# Altium footprint library Open-Wearable.PcbLib: 2 footprints
Each footprint in its own frame and in the unit in brackets; x right, y up, seen from the top. Pads: shape width x height; smd on the part's side, far side on the other; paste and mask are expansions set on the pad; w line width, h text height; cw(c..) or ccw(c..) is an arc to the next point about the centre after c.
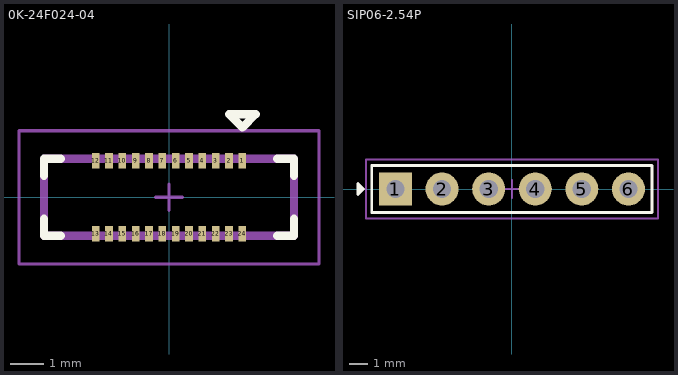
[diagram p0: the footprints below, top view; thin cyan lines are the x and y axes]

## 0K-24F024-04 [mm] "24 Pins 0.4mm Pitch ZIF Connector"
pads (24):
  rect 0.23x0.47 smd: 1(2.2,1.095) 2(1.8,1.095) 3(1.4,1.095) 4(1,1.095) 5(0.6,1.095) 6(0.2,1.095) 7(-0.2,1.095) 8(-0.6,1.095) 9(-1,1.095) 10(-1.4,1.095) 11(-1.8,1.095) 12(-2.2,1.095) 13(-2.2,-1.095) 14(-1.8,-1.095) 15(-1.4,-1.095) 16(-1,-1.095) 17(-0.6,-1.095) 18(-0.2,-1.095) 19(0.2,-1.095) 20(0.6,-1.095) 21(1,-1.095) 22(1.4,-1.095) 23(1.8,-1.095) 24(2.2,-1.095)
Top Overlay:
  lines w0.254: -3.75,-0.65 -3.75,-1.15 -3.25,-1.15 ; -3.75,0.65 -3.75,1.15 -3.25,1.15 ; 3.25,-1.15 3.75,-1.15 3.75,-0.65 ; 3.25,1.15 3.75,1.15 3.75,0.65 ; 1.8,2.495 2.2,2.095 2.6,2.495 1.8,2.495
Mechanical 13:
  lines w0.254: -3.75,-1.15 3.75,-1.15 3.75,1.15 -3.75,1.15 -3.75,-1.15
Mechanical 15:
  lines w0.1: -0.4,0 0.4,0 ; 0,-0.4 0,0.4 ; -4.5,-2 -4.5,2 4.5,2 4.5,-2 -4.5,-2
3D body: height 0.8, standoff 0, extent -3.75,-1.15 3.75,1.15

## SIP06-2.54P [mm] "Single In-line Package; Pin Type; 6 Leads; Pitch: 2.54mm; Normally Used As Jumper Header"
height 8.6
pads (6):
  rect 1.8x1.8 hole 1: 1(-6.35,0)
  round 1.8 hole 1: 2(-3.81,0) 3(-1.27,0) 4(1.27,0) 5(3.81,0) 6(6.35,0)
Top Overlay:
  lines w0.15: -8.29,0.075 -8.29,-0.1 -8.39,0 -8.39,0.3 ; -8.215,-0.1 -8.215,0.075 ; -8.39,0.3 -8.09,0 -8.39,-0.3 -8.39,0.3 ; -7.635,-1.275 7.635,-1.275 7.635,1.275 -7.635,1.275 -7.635,-1.275
Mechanical 15:
  lines w0.1: -0.5,0 0.5,0 ; 0,-0.5 0,0.5 ; -7.96,-1.6 -7.96,1.6 7.96,1.6 7.96,-1.6 -7.96,-1.6
3D body "Molex 22032061.stp": height 10.84, standoff -3.38, extent -7.493,-1.27 7.493,1.092